# Altium schematic symbol library USB6008.SchLib: 1 symbol
Pins are listed as number, name and electrical type; pins without a type are passive.

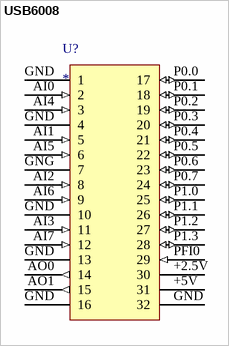
[diagram p0: symbol USB6008]

## USB6008
designator U?
pins: +2.5V 30 (power), +5V 31 (power), AI0 2 (in), AI1 5 (in), AI2 8 (in), AI3 11 (in), AI4 3 (in), AI5 6 (in), AI6 9 (in), AI7 12 (in), AO0 14 (out), AO1 15 (out), GND 1 (power), GND 4 (power), GND 10 (power), GND 13 (power), GND 16 (power), GND 32 (power), GNG 7 (power), P0.0 17 (io), P0.1 18 (io), P0.2 19 (io), P0.3 20 (io), P0.4 21 (io), P0.5 22 (io), P0.6 23 (io), P0.7 24 (io), P1.0 25 (io), P1.1 26 (io), P1.2 27 (io), P1.3 28 (io), PFI0 29 (in)